# Altium footprint library PA5141.105NLT.PcbLib: 1 footprints
Each footprint in its own frame and in the unit in brackets; x right, y up, seen from the top. Pads: shape width x height; smd on the part's side, far side on the other; paste and mask are expansions set on the pad; w line width, h text height; cw(c..) or ccw(c..) is an arc to the next point about the centre after c.
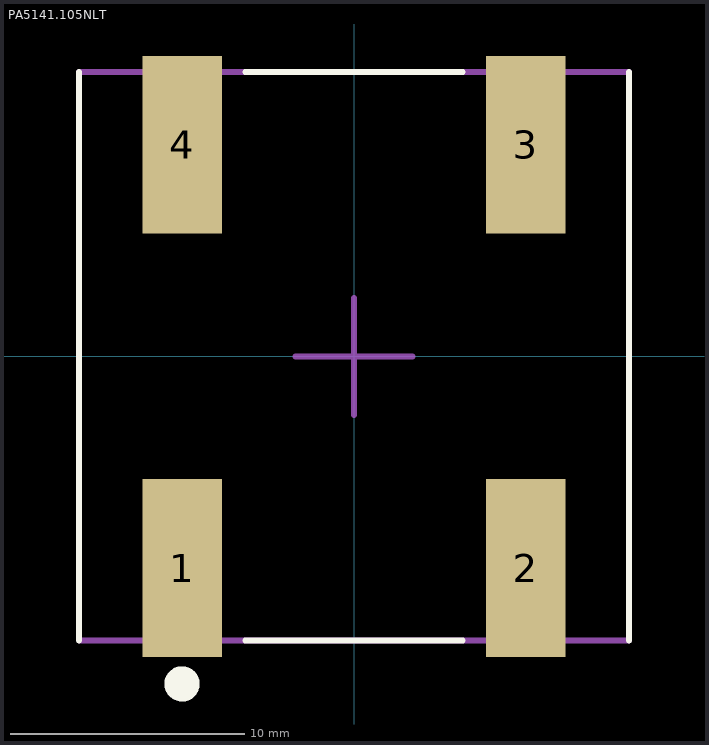
[diagram p0: the footprint, top view; thin cyan lines are the x and y axes]

## PA5141.105NLT [mm]
pads (4):
  rect 3.4x7.6 smd paste+0 mask+0: 1(-7.35,-9.05) 2(7.35,-9.05) 3(7.35,9.05) 4(-7.35,9.05)
Top Overlay:
  circle w0.8: c-7.35,-14 r0.354
  lines w0.254: -11.75,-12.15 -11.75,12.15 ; -4.65,-12.15 4.65,-12.15 ; -4.65,12.15 4.65,12.15 ; 11.75,-12.15 11.75,12.15
Top Designator:
  text ".Designator" at -7.618,-0.508 h1.52
3D Body:
  lines w0.254: -11.75,-12.125 -11.725,-12.15 11.75,-12.15 11.75,12.15 -11.75,12.15 -11.75,-12.125
Center Cross (Mech15):
  lines w0.254: -2.5,0 0,0 ; 0,-2.5 0,0 ; 0,2.5 0,0 ; 2.5,0 0,0
3D body: height 22.7, standoff 0, extent -11.75,-12.15 11.75,12.15